# EAGLE library part LDD-1500L (library LDD-1500L)
LED Power Supplies 6-36Vin 2-30V 1500mA Pin DC-DC LED Driver Source: Datasheet <https://componentsearchengine.com/Datasheets/1/LDD-1500L.pdf>
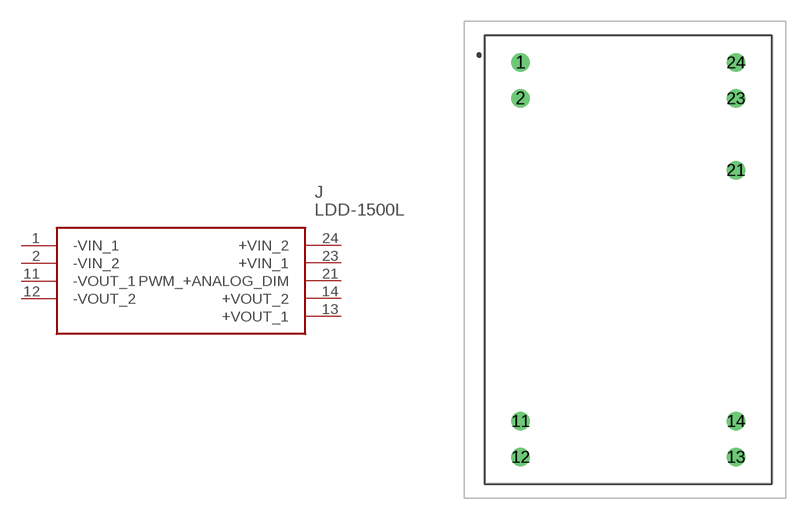
[diagram p0: symbol with the pads of LDD1500L; footprint LDD1500L]

Designator prefix J

## LDD-1500L (Arrow_Part_Number: LDD-1500L; Arrow_Price-Stock: https://www.arrow.com/en/products/ldd-1500l/mean-well-enterprises; Description: LED Power Supplies 6-36Vin 2-30V 1500mA Pin DC-DC LED Driver; Height: 12.2mm; Manufacturer_Name: Mean Well; Manufacturer_Part_Number: LDD-1500L; Mouser_Part_Number: 709-LDD-1500L; Mouser_Price-Stock: https://www.mouser.co.uk/ProductDetail/MEAN-WELL/LDD-1500L?qs=JK6Bpmia%2FmsTbFwcpjJldw%3D%3D)  [LDD1500L]
1  -VIN_1
2  -VIN_2
11  -VOUT_1
12  -VOUT_2
13  +VOUT_1
14  +VOUT_2
21  PWM_+ANALOG_DIM
23  +VIN_1
24  +VIN_2

## Footprint LDD1500L (pad centres in mm)
LDD-1500L-2
drill 0.8 pad 1.3: 1 0,0; 2 0,-2.54; 11 0,-25.4; 12 0,-27.94; 13 15.24,-27.94; 14 15.24,-25.4; 21 15.24,-7.62; 23 15.24,-2.54; 24 15.24,0